# EAGLE library part ML8088S (library X893)
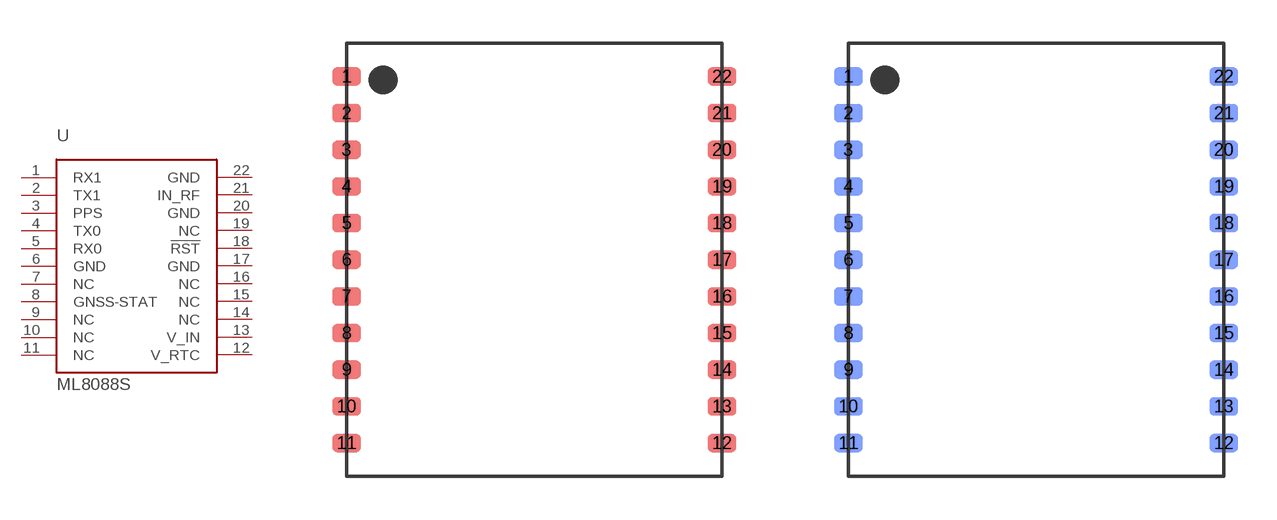
[diagram p145: symbol with the pads of ML8088S; footprints ML8088S, ML8088SX]

Designator prefix U

## ML8088S  [ML8088S]
1  RX1  in
2  TX1  out
3  PPS  out
4  TX0  out
5  RX0  in
6  GND  sup
7  NC  nc
8  GNSS-STAT  out
9  NC  nc
10  NC  nc
11  NC  nc
12  V_RTC  pas
13  V_IN  pas
14  NC  nc
15  NC  nc
16  NC  nc
17  GND  sup
18  !RST  in
19  NC  nc
20  GND  sup
21  IN_RF  pas
22  GND  sup

## ML8088S-X  [ML8088SX]
Pads as for ML8088S

## Footprint ML8088S (pad centres in mm)
smd 1 x 0.635: 1 -6.5,6.35; 2 -6.5,5.08; 3 -6.5,3.81; 4 -6.5,2.54; 5 -6.5,1.27; 6 -6.5,0; 7 -6.5,-1.27; 8 -6.5,-2.54; 9 -6.5,-3.81; 10 -6.5,-5.08; 11 -6.5,-6.35; 12 6.5,-6.35; 13 6.5,-5.08; 14 6.5,-3.81; 15 6.5,-2.54; 16 6.5,-1.27; 17 6.5,0; 18 6.5,1.27; 19 6.5,2.54; 20 6.5,3.81; 21 6.5,5.08; 22 6.5,6.35

## Footprint ML8088SX (pad centres in mm)
smd 1 x 0.635 bottom: 1 -6.5,6.35; 2 -6.5,5.08; 3 -6.5,3.81; 4 -6.5,2.54; 5 -6.5,1.27; 6 -6.5,0; 7 -6.5,-1.27; 8 -6.5,-2.54; 9 -6.5,-3.81; 10 -6.5,-5.08; 11 -6.5,-6.35; 12 6.5,-6.35; 13 6.5,-5.08; 14 6.5,-3.81; 15 6.5,-2.54; 16 6.5,-1.27; 17 6.5,0; 18 6.5,1.27; 19 6.5,2.54; 20 6.5,3.81; 21 6.5,5.08; 22 6.5,6.35